# Altium schematic symbol library Schlib1.SchLib: 3 symbols
Pins are listed as number, name and electrical type; pins without a type are passive.

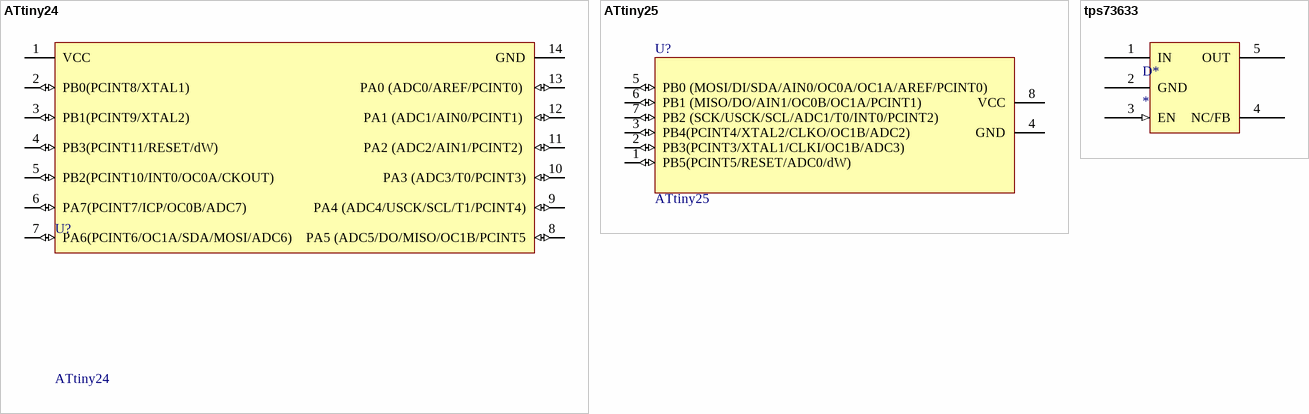
[diagram p0: symbols ATtiny24 to tps73633]

## ATtiny24
designator U?
8-Bit AVR Microcontroller with 1K Byte of Flash Memory; Published: 17-Sep-2003; LatestRevisionDate: 13-Apr-2006; LatestRevisionNote: IPC-7351 Footprint Added.; DatasheetVersion: 1187E-AVR-06/02; PackageVersion: revB, May-2002; PackageReference: 8S2; Publisher: Altium Limited; PackageDescription: 8-Pin Small Outline Package 1.27 mm Pitch; ComponentLink1Description: Manufacturer Link; ComponentLink1URL: http://www.atmel.com; ComponentLink2Description: Datasheet; ComponentLink2URL: http://www.atmel.com/dyn/resources/prod_documents/doc1187.pdf
footprint SOIC14_M (14-Pin Small Outline Integrated Circuit 1.27 mm Pitch, IPC Low Density)
pins: 1 VCC (power), 2 PB0(PCINT8/XTAL1)  (io), 3 PB1(PCINT9/XTAL2)  (io), 4 PB3(PCINT11/RESET/dW)  (io), 5 PB2(PCINT10/INT0/OC0A/CKOUT)  (io), 6 PA7(PCINT7/ICP/OC0B/ADC7)  (io), 7 PA6(PCINT6/OC1A/SDA/MOSI/ADC6)  (io), 8 PA5 (ADC5/DO/MISO/OC1B/PCINT5 (io), 9 PA4 (ADC4/USCK/SCL/T1/PCINT4) (io), 10 PA3 (ADC3/T0/PCINT3) (io), 11 PA2 (ADC2/AIN1/PCINT2)  (io), 12 PA1 (ADC1/AIN0/PCINT1)  (io), 13 PA0 (ADC0/AREF/PCINT0)  (io), 14 GND (power)

## ATtiny25
designator U?
8-Bit AVR Microcontroller with 1K Byte of Flash Memory; Published: 17-Sep-2003; LatestRevisionDate: 13-Apr-2006; LatestRevisionNote: IPC-7351 Footprint Added.; DatasheetVersion: 1187E-AVR-06/02; PackageVersion: revB, May-2002; PackageReference: 8S2; Publisher: Altium Limited; PackageDescription: 8-Pin Small Outline Package 1.27 mm Pitch; ComponentLink1Description: Manufacturer Link; ComponentLink1URL: http://www.atmel.com; ComponentLink2Description: Datasheet; ComponentLink2URL: http://www.atmel.com/dyn/resources/prod_documents/doc1187.pdf
footprint 8S2_M (SOP, 8-Leads, Body 5.3x5.3mm, Pitch 1.27mm, IPC Low Density)
pins: 1 PB5(PCINT5/RESET/ADC0/dW)  (io), 2 PB3(PCINT3/XTAL1/CLKI/OC1B/ADC3)  (io), 3 PB4(PCINT4/XTAL2/CLKO/OC1B/ADC2)  (io), 4 GND (power), 5 PB0 (MOSI/DI/SDA/AIN0/OC0A/OC1A/AREF/PCINT0) (io), 6 PB1 (MISO/DO/AIN1/OC0B/OC1A/PCINT1) (io), 7 PB2 (SCK/USCK/SCL/ADC1/T0/INT0/PCINT2) (io), 8 VCC (power)

## tps73633
designator D*
voltage regulators
footprint DBV005 (SOT-23/SC-74A; 5 Leads; Body 3 x 3 mm, inc. leads (LxW max))
pins: 1 IN (power), 2 GND (power), 3 EN (in), 4 NC/FB, 5 OUT (power)